# Altium footprint library Battery circuit PCB.PcbLib: 27 footprints (part 2 of 2)
Each footprint in its own frame and in the unit in brackets; x right, y up, seen from the top. Pads: shape width x height; smd on the part's side, far side on the other; paste and mask are expansions set on the pad; w line width, h text height; cw(c..) or ccw(c..) is an arc to the next point about the centre after c.
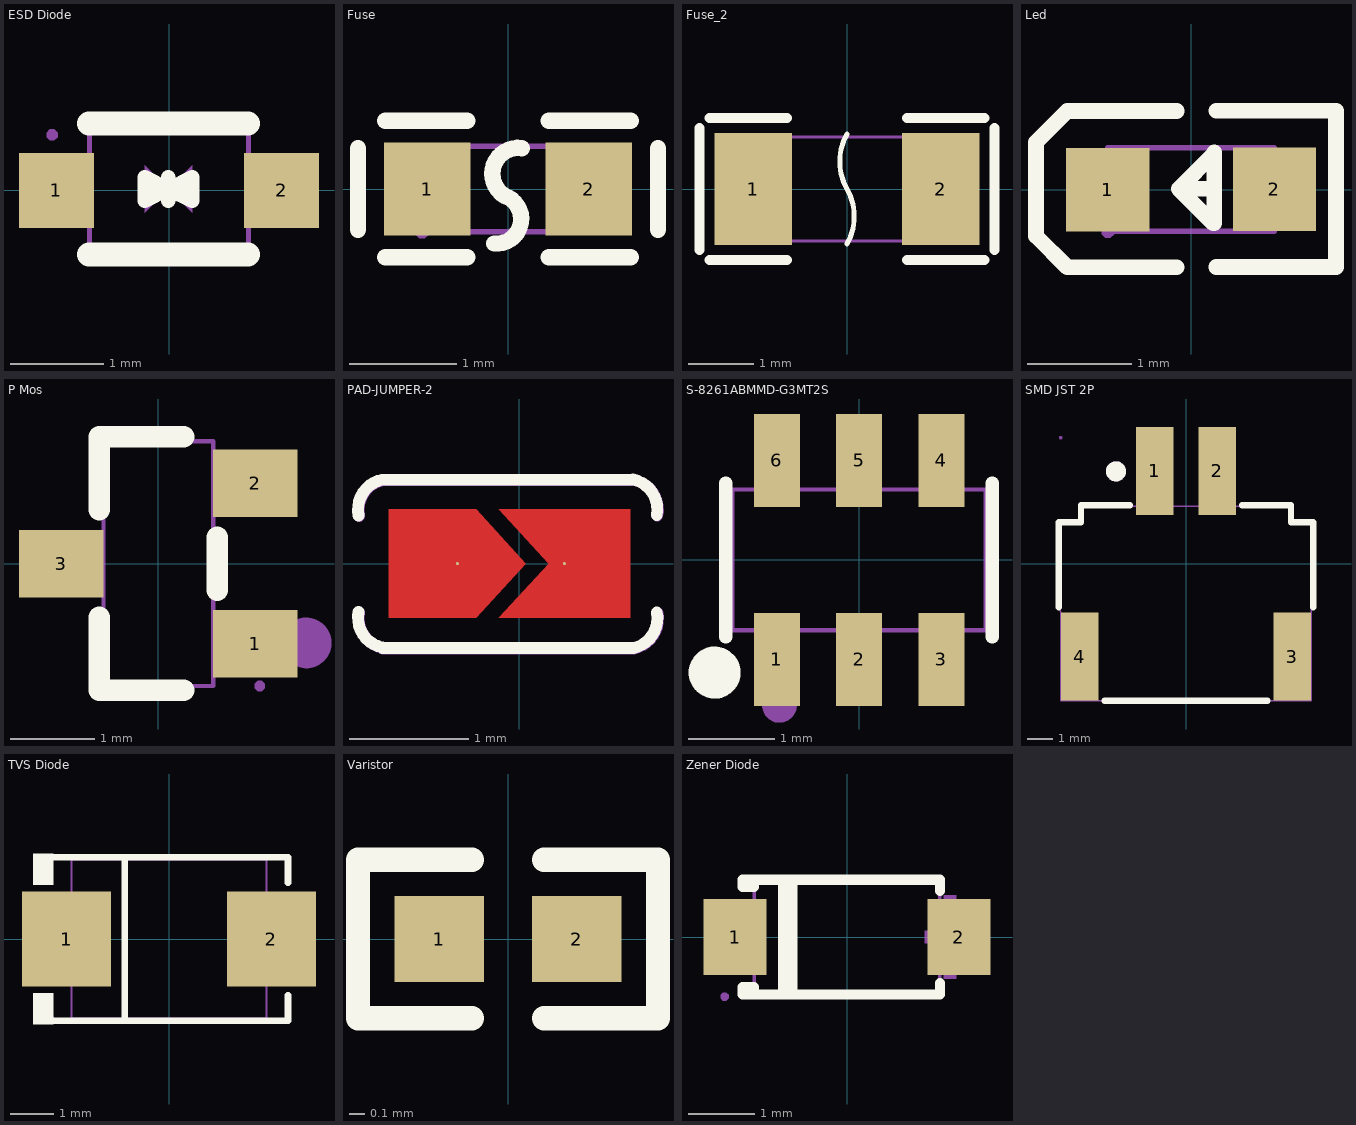
[diagram p1: the footprints below, top view; thin cyan lines are the x and y axes]

## ESD Diode [mm]
pads (2):
  rect 0.8x0.8 smd paste+0 mask+0.051: 1(-1.205,0) 2(1.205,0)
Top Overlay:
  lines w0.154: -0.133,0.015 -0.003,0.015 0.248,0.142 0.248,-0.112 -0.004,0.012 ; -0.008,0.018 -0.26,0.142 -0.26,-0.112 -0.009,0.015 0.121,0.015 ; -0.006,-0.112 -0.006,0.142
  lines w0.254: -0.855,-0.685 0.845,-0.685 ; -0.855,0.715 0.845,0.715
Mechanical 6:
  region: -0.259,0.269 -0.259,-0.239 -0.005,0.015
  region: 0.249,-0.239 0.249,0.269 -0.005,0.015
Mechanical 15:
  region: 0.835,-0.162 0.835,0.163 0.955,0.163 0.955,-0.162
  region: 0.945,-0.162 0.945,0.163 1.25,0.163 1.25,-0.162
  region: -0.965,-0.162 -0.965,0.163 -0.845,0.163 -0.845,-0.162
  region: -1.25,-0.162 -1.25,0.163 -0.955,0.163 -0.955,-0.162
  region: -1.19,0.595 -1.191,0.619 -1.226,0.653 -1.274,0.653 -1.309,0.619 -1.31,0.595 -1.309,0.571 -1.274,0.537 -1.226,0.537 -1.191,0.571
  lines w0.051: -0.85,-0.625 -0.85,0.625 0.85,0.625 0.85,-0.625 -0.85,-0.625
3D body "SOD-323.step": height 1.16, standoff 0, extent -1.4,-0.75 1.45,0.75

## Fuse [mm]
pads (2):
  rect 0.806x0.864 smd paste-100 mask+0.051: 1(-0.753,0) 2(0.753,0)
Top Overlay:
  lines w0.152: -1.397,-0.381 -1.397,0.381 ; -1.143,-0.635 -0.381,-0.635 ; -1.143,0.635 -0.381,0.635 ; -0.127,-0.508 ccw(c-0.107,-0.28) -0.031,-0.063 ; -0.032,-0.064 cw(c0.096,0.142) 0.127,0.381 ; 0.381,-0.635 1.143,-0.635 ; 0.381,0.635 1.143,0.635 ; 1.397,-0.381 1.397,0.381
Top Paste:
  region: -0.315,-0.138 -0.315,0.138 -0.589,0.432 -1.092,0.432 -1.156,0.368 -1.156,-0.368 -1.092,-0.432 -0.589,-0.432
  region: 0.315,-0.138 0.315,0.138 0.589,0.432 1.092,0.432 1.156,0.368 1.156,-0.368 1.092,-0.432 0.589,-0.432
Mechanical 15:
  region: 0.8,-0.4 0.8,0.4 0.5,0.4 0.5,-0.4
  region: -0.8,-0.4 -0.8,0.4 -0.5,0.4 -0.5,-0.4
  region: -0.74,-0.4 -0.74,-0.375 -0.775,-0.34 -0.825,-0.34 -0.86,-0.375 -0.86,-0.4 -0.86,-0.425 -0.825,-0.46 -0.775,-0.46 -0.74,-0.425
  lines w0.051: -0.8,-0.4 0.8,-0.4 0.8,0.4 -0.8,0.4 -0.8,-0.4

## Fuse_2 [mm]
pads (2):
  rect 1.19x1.728 smd paste+0 mask+0.051: 1(-1.445,0) 2(1.445,0)
Top Overlay:
  lines w0.076: 0,-0.845 ccw(c-0.732,-0.422) 0,0 cw(c0.732,0.422) 0,0.845
  lines w0.152: -2.269,-0.94 -2.269,0.94 ; -2.116,-1.093 -0.926,-1.093 ; -2.116,1.093 -0.926,1.093 ; 0.926,-1.093 2.116,-1.093 ; 0.926,1.093 2.116,1.093 ; 2.269,-0.94 2.269,0.94
Mechanical 15:
  region: -1.54,-0.8 -1.541,-0.776 -1.576,-0.742 -1.624,-0.742 -1.659,-0.776 -1.66,-0.8 -1.659,-0.824 -1.624,-0.858 -1.576,-0.858 -1.541,-0.824
  region: -1.6,-0.8 -1.1,-0.8 -1.1,0.8 -1.6,0.8
  region: 1.1,-0.8 1.6,-0.8 1.6,0.8 1.1,0.8
  lines w0.051: -1.6,-0.8 1.6,-0.8 1.6,0.8 -1.6,0.8 -1.6,-0.8
3D body "Fuse.STEP": height 0.75, standoff 0, extent -1.6,-0.775 1.6,0.825

## Led [mm]
pads (2):
  rect 0.8x0.8 smd paste+0 mask+0.051: 1(-0.8,-0.003) 2(0.8,0.003)
Top Overlay:
  lines w0.15: -0.14,-0.746 -1.19,-0.746 -1.49,-0.446 -1.49,-0.346 -1.49,0.354 -1.49,0.454 -1.19,0.754 -0.14,0.754 ; 0.22,0.007 -0.12,0.007 ; 0.24,-0.744 1.39,-0.744 ; 0.24,0.757 1.39,0.757 1.39,-0.723 ; -0.12,0.007 0.21,-0.323 0.22,-0.323 0.22,0.357 0.22,0.347 -0.12,0.007
Mechanical 6:
  region: 0.529,0.068 1.069,0.068 1.069,-0.062 0.529,-0.062
  region: 0.735,-0.267 0.735,0.273 0.865,0.273 0.865,-0.267
  region: -1.07,0.062 -0.53,0.062 -0.53,-0.068 -1.07,-0.068
Mechanical 15:
  region: -0.74,-0.403 -0.741,-0.379 -0.775,-0.346 -0.824,-0.346 -0.858,-0.379 -0.859,-0.403 -0.858,-0.428 -0.824,-0.461 -0.775,-0.461 -0.741,-0.428
  region: 0.5,-0.396 0.5,0.404 0.8,0.404 0.8,-0.396
  region: -0.8,-0.403 -0.8,0.397 -0.5,0.397 -0.5,-0.403
  lines w0.051: -0.8,-0.4 -0.8,0.4 0.8,0.4 0.8,-0.4 -0.8,-0.4
3D body "led.STEP": height 0.8, standoff 0, extent -0.775,-0.375 0.825,0.425

## P Mos [mm]
pads (3):
  rect 1x0.8 smd paste+0 mask+0.051: 1(1.15,-0.95) 2(1.15,0.95) 3(-1.15,0)
Top Overlay:
  lines w0.254: -0.7,-0.636 -0.7,-1.5 0.3,-1.5 ; -0.7,0.636 -0.7,1.5 0.3,1.5 ; 0.7,-0.314 0.7,0.314
Mechanical 6:
  circle w0.3: c1.753,-0.94 r0.15
Mechanical 15:
  region: -1.2,-0.2 -1.2,0.2 -0.8,0.2 -0.8,-0.2
  region: -0.81,-0.2 -0.81,0.2 -0.64,0.2 -0.64,-0.2
  region: 0.8,0.75 0.8,1.15 1.2,1.15 1.2,0.75
  region: 0.64,0.75 0.64,1.15 0.81,1.15 0.81,0.75
  region: 0.8,-1.15 0.8,-0.75 1.2,-0.75 1.2,-1.15
  region: 0.64,-1.15 0.64,-0.75 0.81,-0.75 0.81,-1.15
  region: 1.26,-1.45 1.26,-1.425 1.225,-1.39 1.175,-1.39 1.14,-1.425 1.14,-1.45 1.14,-1.475 1.175,-1.51 1.225,-1.51 1.26,-1.475
  lines w0.051: -0.65,-1.45 0.65,-1.45 0.65,1.45 -0.65,1.45 -0.65,-1.45
3D body "A03401A .step": height 1.25, standoff 0, extent -1.524,-1.6 1.474,1.498

## PAD-JUMPER-2 [mil]
pads (2):
  round 1 smd mask+4: 1(-20.53,0.09) 2(14.97,0.09)
Top Layer:
  region: -14.28,-17.91 -43.28,-17.91 -43.28,18.09 -14.28,18.09 2.22,0.09
  region: -6.78,18.09 36.72,18.09 36.72,-17.91 -6.78,-17.91 9.72,0.09
Top Overlay:
  lines w3.94: -53.28,-15.91 ccw(c-43.44,-17.88) -45.4,-27.72 ; -53.28,16.09 cw(c-43.44,18.07) -45.4,27.91 37.69,27.91 ; -45.4,-27.91 37.72,-27.91 ccw(c35.76,-18.07) 45.6,-16.09 ; 37.69,28 cw(c35.73,18.16) 45.56,16.19
Top Paste:
  region: 34.47,17.81 17.57,17.81 15.57,15.84 15.57,6.87 15.57,-6.12 15.57,-15.65 17.57,-17.62 34.47,-17.62 36.44,-15.65 36.44,15.84
  region: -23.81,17.81 -40.71,17.81 -42.71,15.84 -42.71,6.87 -42.71,-6.13 -42.71,-15.65 -40.71,-17.62 -23.81,-17.62 -21.84,-15.65 -21.84,15.84
Top Solder:
  region: -14.26,-17.93 -43.26,-17.93 -43.26,18.07 -14.26,18.07 2.24,0.07
  region: -6.84,18.06 36.66,18.06 36.66,-17.94 -6.84,-17.94 9.66,0.06
Top Assembly:
  lines w3.94: -53.08,-16.08 ccw(c-43.24,-18.05) -45.2,-27.89 ; -53.08,15.92 cw(c-43.24,17.89) -45.2,27.73 37.89,27.73 ; -45.2,-28.08 37.92,-28.08 ccw(c35.96,-18.24) 45.8,-16.27 ; 37.89,27.83 cw(c35.93,17.99) 45.76,16.02

## S-8261ABMMD-G3MT2S [mm]
pads (6):
  rect 0.532x1.072 smd paste+0 mask+0.051: 1(-0.95,-1.149) 2(0,-1.149) 3(0.95,-1.149) 4(0.95,1.149) 5(0,1.149) 6(-0.95,1.149)
Top Overlay:
  circle w0.3: c-1.668,-1.301 r0.15
  lines w0.152: -1.539,-0.889 -1.539,0.889 ; 1.539,-0.889 1.539,0.889
Mechanical 6:
  circle w0.2: c-0.92,-1.68 r0.1
Mechanical 15:
  region: -1.403,-1.4 -1.404,-1.376 -1.439,-1.341 -1.488,-1.341 -1.522,-1.376 -1.523,-1.4 -1.522,-1.425 -1.487,-1.459 -1.438,-1.459 -1.404,-1.424
  region: -1.165,-0.925 -0.735,-0.925 -0.735,-1.4 -1.165,-1.4
  region: -1.165,-0.803 -0.735,-0.803 -0.735,-0.935 -1.165,-0.935
  region: -0.215,-0.925 0.215,-0.925 0.215,-1.4 -0.215,-1.4
  region: -0.215,-0.803 0.215,-0.803 0.215,-0.935 -0.215,-0.935
  region: 0.735,-0.925 1.165,-0.925 1.165,-1.4 0.735,-1.4
  region: 0.735,-0.803 1.165,-0.803 1.165,-0.935 0.735,-0.935
  region: 0.735,0.925 1.165,0.925 1.165,1.4 0.735,1.4
  region: 0.735,0.935 1.165,0.935 1.165,0.803 0.735,0.803
  region: -0.215,0.925 0.215,0.925 0.215,1.4 -0.215,1.4
  region: -0.215,0.935 0.215,0.935 0.215,0.803 -0.215,0.803
  region: -1.165,0.925 -0.735,0.925 -0.735,1.4 -1.165,1.4
  region: -1.165,0.935 -0.735,0.935 -0.735,0.803 -1.165,0.803
  lines w0.051: -1.463,-0.813 1.463,-0.813 1.463,0.813 -1.463,0.813 -1.463,-0.813

## SMD JST 2P [mm]
pads (4):
  rect 1.5x3.5 smd: 1(-1.25,3.7) 2(1.25,3.7) 3(4.23,-3.7) 4(-4.23,-3.7)
Top Overlay:
  circle w0.4: c-2.794,3.683 r0.2
  lines w0.254: -5.073,-1.739 -5.073,1.651 -4.184,1.651 -4.184,2.333 -2.231,2.333 ; -3.25,-5.467 3.25,-5.467 ; 2.231,2.333 4.184,2.333 4.184,1.651 5.073,1.651 5.073,-1.739
Mechanical 6:
  circle w0.4: c-2.794,3.683 r0.2
Mechanical 15:
  region: -4.94,5.033 -4.94,5.058 -4.975,5.093 -5.025,5.093 -5.06,5.058 -5.06,5.033 -5.06,5.008 -5.025,4.973 -4.975,4.973 -4.94,5.008 -4.94,5.033
  region: -1.57,5.033 -0.93,5.033 -0.93,2.033 -1.57,2.033
  region: 0.93,5.033 1.57,5.033 1.57,2.033 0.93,2.033
  region: 4.03,-2.2 4.43,-2.2 4.43,-5.2 4.03,-5.2
  region: -4.43,-2.2 -4.03,-2.2 -4.03,-5.2 -4.43,-5.2
  lines w0.051: -5.007,1.662 -5,-5.467 4.999,-5.467 4.999,1.651 4.184,1.651 4.184,2.3 -4.203,2.3 -4.2,1.662 -5.007,1.662
3D body "SMD jst 2.54mm.STEP": height 5.5, standoff -0.1, extent -3.95,-5.283 3.95,3.317

## TVS Diode [mm]
pads (2):
  rect 2.047x2.192 smd paste+0 mask+0.051: 1(-2.361,0) 2(2.361,0)
Top Overlay:
  region: -2.668,-1.962 -2.668,-1.249 -3.125,-1.249 -3.125,-1.962
  region: -2.668,1.962 -2.668,1.249 -3.125,1.249 -3.125,1.962
  lines w0.152: -2.744,-1.886 2.744,-1.886 2.744,-1.299 ; -2.744,1.886 2.744,1.886 2.744,1.299 ; -1.016,-1.886 -1.016,1.886
Mechanical 6:
  region: 2.514,-0.896 2.514,0.914 2.242,0.914 2.242,-0.896
  region: 2.921,-0.127 2.921,0.144 1.835,0.144 1.835,-0.127
  region: -3.048,-0.127 -3.048,0.144 -1.962,0.144 -1.962,-0.127
Mechanical 15:
  region: -2.64,-1.835 -2.64,-1.81 -2.675,-1.775 -2.725,-1.775 -2.76,-1.81 -2.76,-1.835 -2.76,-1.86 -2.725,-1.895 -2.675,-1.895 -2.64,-1.86
  region: 2.7,-1 2.7,1 1.6,1 1.6,-1
  region: -2.7,-1 -2.7,1 -1.6,1 -1.6,-1
  lines w0.051: -2.25,-1.835 -2.25,1.835 2.25,1.835 2.25,-1.835 -2.25,-1.835

## Varistor [mm]
pads (2):
  rect 0.566x0.54 smd paste-100 mask+0.051: 1(-0.433,0) 2(0.433,0)
Top Overlay:
  lines w0.152: -0.226,-0.499 -0.944,-0.499 -0.944,0.499 -0.226,0.499 ; 0.226,-0.499 0.944,-0.499 0.944,0.499 0.226,0.499
Top Paste:
  region: 0.135,-0.23 0.135,0.23 0.175,0.27 0.676,0.27 0.716,0.23 0.716,-0.23 0.676,-0.27 0.175,-0.27
  region: -0.135,-0.23 -0.135,0.23 -0.175,0.27 -0.676,0.27 -0.716,0.23 -0.716,-0.23 -0.676,-0.27 -0.175,-0.27
3D body "Res 402.STEP": height 0.4, standoff 0, extent -0.5,-0.254 0.5,0.246

## Zener Diode [mm]
pads (2):
  rect 0.95x1.15 smd paste+0 mask+0.051: 1(-1.692,0) 2(1.692,0)
Top Overlay:
  lines w0.152: -0.97,-0.866 -0.97,0.866 ; -0.827,-0.866 -0.827,0.866 ; 1.406,-0.698 1.406,-0.866 -1.406,-0.866 ; 1.406,0.698 1.406,0.866 -1.406,0.866 ; -1.406,-0.866 -1.406,-0.755 -1.58,-0.755 -1.58,-0.866 -1.406,-0.866 ; -1.406,0.866 -1.406,0.755 -1.58,0.755 -1.58,0.866 -1.406,0.866
Mechanical 6:
  region: 1.651,0.635 1.651,-0.629 1.461,-0.629 1.461,0.635
  region: 1.935,0.098 1.935,-0.092 1.177,-0.092 1.177,0.098
  region: -2.03,0.095 -2.03,-0.095 -1.272,-0.095 -1.272,0.095
Mechanical 15:
  region: 1.851,-0.465 1.851,0.465 1.301,0.465 1.301,-0.465
  region: -1.851,-0.465 -1.851,0.465 -1.301,0.465 -1.301,-0.465
  region: -1.79,-0.9 -1.79,-0.875 -1.826,-0.84 -1.875,-0.84 -1.91,-0.875 -1.91,-0.9 -1.91,-0.925 -1.875,-0.96 -1.826,-0.96 -1.79,-0.925
  lines w0.051: -1.4,-0.9 1.4,-0.9 1.4,0.9 -1.4,0.9 -1.4,-0.9
3D body "Zener diode.STEP": height 1.43, standoff -0.02, extent -1.85,-0.75 1.8,0.8